# Altium integrated library Linear Technology Power Management System Supervisor, Monitor and Control.IntLib: 1611 symbols (part 78 of 100)
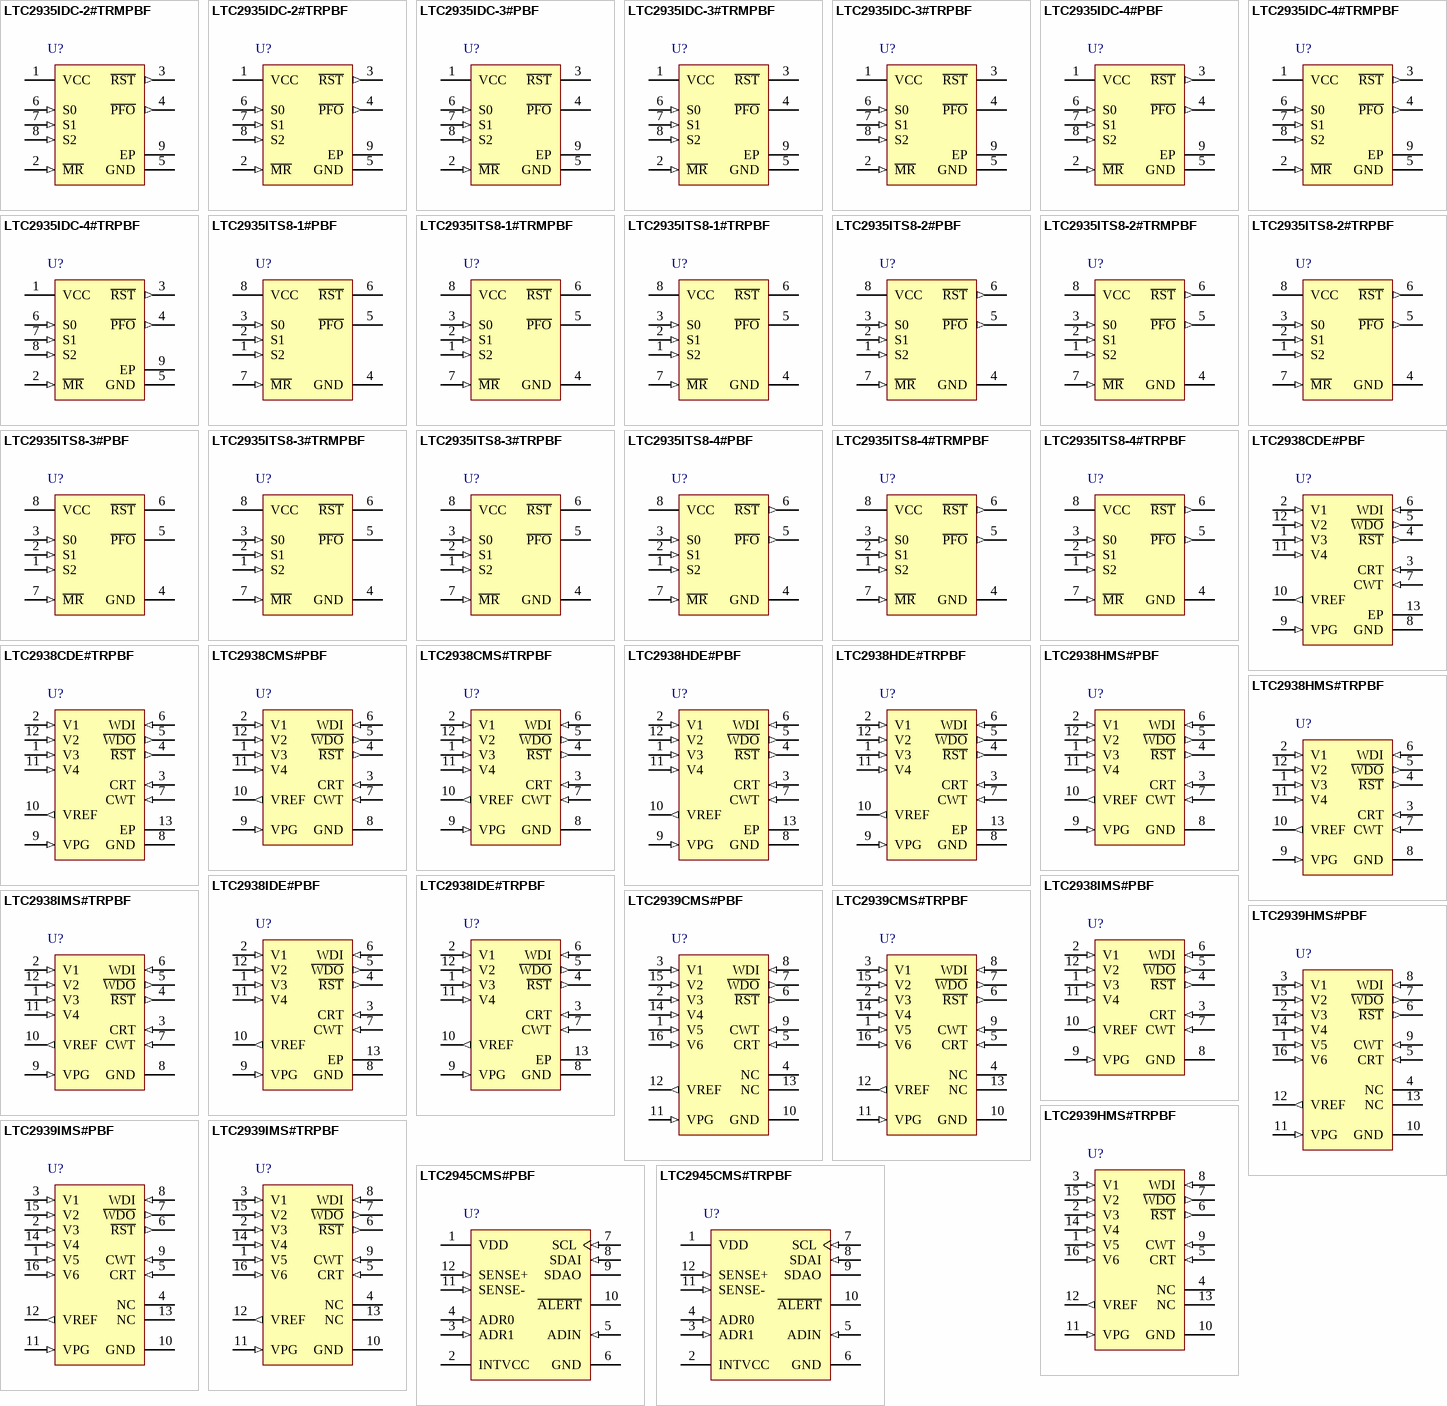
[diagram p122: symbols LTC2935IDC-2#TRMPBF to LTC2945CMS#TRPBF]

## LTC2938HDE#TRPBF
designator U?
Configurable 4-Supply Monitor with Watchdog Timer, 12-pin SON (DE-UE-12), -40 to 125 degC, Pb-Free, Tape and Reel; Manufacturer: Linear Technology; PartNumber: LTC2938HDE#TRPBF; Number of Supplies(#): 4; PackageVersion: Rev. D, 06/2010; PackageReference: DE-UE-12; PackageDescription: 12-Pin Plastic DFN, Body 4 x 3 mm, Pitch 0.5 mm; Supplier 1: Digi-Key; Supplier Part Number 1: LTC2938HDE#TRPBF-ND; Packing: Tape and Reel; RoHS: TRUE; Mounting Technology: Surface Mount; Code_JEDEC: MO-229; ComponentLink1Description: Manufacturer URL; ComponentLink1URL: http://www.linear.com/; ComponentLink2Description: Datasheet; ComponentLink2URL: http://cds.linear.com/docs/en/datasheet/293839f.pdf; ComponentLink3Description: Package Specification; ComponentLink3URL: http://cds.linear.com/docs/en/packaging/DFN_12_05-08-1695.pdf
footprint LT-DE-UE-12_V (SON, 12-Leads, Body 4x3mm, Pitch 0.5mm, Thermal Pad 3.3x1.7mm)
pins: 1 V3 (in) "Voltage Input 3. Select from 2.5V, 1.8V, 1.5V, 1.2V or ADJ. See the Applications Information section for details. Tie to V1 if unused.", 2 V1 (in) "Voltage Input 1. Select from 5V or 3.3V. See the Applications Information section for details. The greater of V1 or V2 is also VCC for the device. Bypass this input to ground with a 0.1uF (or greater) capacitor.", 3 CRT (in) "Reset Timeout Capacitor. Attach an external capacitor (CRT) to GND to set a reset timeout of 2ms/nF. A 47nF capacitor generates a 94ms reset delay time. Leaving CRT unconnected generates a minimum timeout period of (See Datasheet)", 4 ~{RST} (out) "Reset Output. Logic output with weak 6uA pull-up to V2. Pulls low when any voltage input is below the reset threshold and held low for the confi gured reset delay time after all voltage inputs are above threshold. When the (See Datasheet)", 5 ~{WDO} (out) "Watchdog Output. Logic output with weak 6uA pullup to V2. May be pulled greater than V2 using external pull-up. For V2 confi gured to monitor 2.5V or below, connect an external pull-up resistor to the interface logic supply (See Datasheet)", 6 WDI (in) "Watchdog Input: A three-state input that controls the operation of the watchdog timer. Leaving the WDI pin unconnected disables the watchdog timer while tying it low or high enables it. While R\S\T\ is high, a transition (See Datasheet)", 7 CWT (in) "Watchdog Timeout Capacitor. Attach a capacitor (CWT) between CWT and GND to set a watchdog timeout period of 20ms/nF. A 47nF capacitor generates a 940ms watchdog timeout period. Leaving CWT unconnected generates a minimum (See Datasheet)", 8 GND (power) "Device Ground.", 9 VPG (in) "Threshold Select Input. Connect to an external 1% resistive divider between VREF and GND to select one of sixteen combinations of voltage thresholds (see Table 1). Do not add capacitance to the VPG input.", 10 VREF (out) "Buffered Reference Voltage Output. A 1.210V nominal reference used for the mode selection voltage (VPG) and for the offset of negative adjustable applications. The buffered reference can source and sink up to 1mA. The (See Datasheet)", 11 V4 (in) "Voltage Input 4. Select from 1.8V, 1.5V, 1.2V, ADJ or -ADJ. See the Applications Information section for details. Tie to V1 if unused and confi gured for positive voltage.", 12 V2 (in) "Voltage Input 2. Select from 3.3V, 2.5V, 1.8V, 1.5V or 1.2V. See the Applications Information section for details. The greater of V1, V2 is also VCC for the device. Bypass this input to ground with a 0.1uF (or greater) (See Datasheet)", 13 EP (power) "The Exposed Pad may be left open or connected to device ground."

## LTC2938HMS#PBF
designator U?
Configurable 4-Supply Monitor with Watchdog Timer, 12-pin SOP (MS-12), -40 to 125 degC, Pb-Free; Manufacturer: Linear Technology; PartNumber: LTC2938HMS#PBF; Number of Supplies(#): 4; PackageVersion: Rev. A, 05/2013; PackageReference: MS-12; PackageDescription: 12-Pin Plastic MSOP, Body 4.039 x 3 mm, Pitch 0.65 mm; Supplier 1: Digi-Key; Supplier Part Number 1: LTC2938HMS#PBF-ND; RoHS: TRUE; Mounting Technology: Surface Mount; ComponentLink1Description: Manufacturer URL; ComponentLink1URL: http://www.linear.com/; ComponentLink2Description: Datasheet; ComponentLink2URL: http://cds.linear.com/docs/en/datasheet/293839f.pdf; ComponentLink3Description: Package Specification; ComponentLink3URL: http://cds.linear.com/docs/en/packaging/05081668_A_MS12.pdf
footprint LT-MS-12_N (SOP, 12-Leads, Body 4.1x3.1mm, Pitch 0.65mm, IPC Medium Density)
footprint LT-MS-12_L (SOP, 12-Leads, Body 4.1x3.1mm, Pitch 0.65mm, IPC High Density)
footprint LT-MS-12_M (SOP, 12-Leads, Body 4.1x3.1mm, Pitch 0.65mm, IPC Low Density)
pins: 1 V3 (in) "Voltage Input 3. Select from 2.5V, 1.8V, 1.5V, 1.2V or ADJ. See the Applications Information section for details. Tie to V1 if unused.", 2 V1 (in) "Voltage Input 1. Select from 5V or 3.3V. See the Applications Information section for details. The greater of V1 or V2 is also VCC for the device. Bypass this input to ground with a 0.1uF (or greater) capacitor.", 3 CRT (in) "Reset Timeout Capacitor. Attach an external capacitor (CRT) to GND to set a reset timeout of 2ms/nF. A 47nF capacitor generates a 94ms reset delay time. Leaving CRT unconnected generates a minimum timeout period of (See Datasheet)", 4 ~{RST} (out) "Reset Output. Logic output with weak 6uA pull-up to V2. Pulls low when any voltage input is below the reset threshold and held low for the confi gured reset delay time after all voltage inputs are above threshold. When the (See Datasheet)", 5 ~{WDO} (out) "Watchdog Output. Logic output with weak 6uA pullup to V2. May be pulled greater than V2 using external pull-up. For V2 confi gured to monitor 2.5V or below, connect an external pull-up resistor to the interface logic supply (See Datasheet)", 6 WDI (in) "Watchdog Input: A three-state input that controls the operation of the watchdog timer. Leaving the WDI pin unconnected disables the watchdog timer while tying it low or high enables it. While R\S\T\ is high, a transition (See Datasheet)", 7 CWT (in) "Watchdog Timeout Capacitor. Attach a capacitor (CWT) between CWT and GND to set a watchdog timeout period of 20ms/nF. A 47nF capacitor generates a 940ms watchdog timeout period. Leaving CWT unconnected generates a minimum (See Datasheet)", 8 GND (power) "Device Ground.", 9 VPG (in) "Threshold Select Input. Connect to an external 1% resistive divider between VREF and GND to select one of sixteen combinations of voltage thresholds (see Table 1). Do not add capacitance to the VPG input.", 10 VREF (out) "Buffered Reference Voltage Output. A 1.210V nominal reference used for the mode selection voltage (VPG) and for the offset of negative adjustable applications. The buffered reference can source and sink up to 1mA. The (See Datasheet)", 11 V4 (in) "Voltage Input 4. Select from 1.8V, 1.5V, 1.2V, ADJ or -ADJ. See the Applications Information section for details. Tie to V1 if unused and confi gured for positive voltage.", 12 V2 (in) "Voltage Input 2. Select from 3.3V, 2.5V, 1.8V, 1.5V or 1.2V. See the Applications Information section for details. The greater of V1, V2 is also VCC for the device. Bypass this input to ground with a 0.1uF (or greater) (See Datasheet)"

## LTC2938HMS#TRPBF
designator U?
Configurable 4-Supply Monitor with Watchdog Timer, 12-pin SOP (MS-12), -40 to 125 degC, Pb-Free, Tape and Reel; Manufacturer: Linear Technology; PartNumber: LTC2938HMS#TRPBF; Number of Supplies(#): 4; PackageVersion: Rev. A, 05/2013; PackageReference: MS-12; PackageDescription: 12-Pin Plastic MSOP, Body 4.039 x 3 mm, Pitch 0.65 mm; Supplier 1: Digi-Key; Supplier Part Number 1: LTC2938HMS#TRPBF-ND; Packing: Tape and Reel; RoHS: TRUE; Mounting Technology: Surface Mount; ComponentLink1Description: Manufacturer URL; ComponentLink1URL: http://www.linear.com/; ComponentLink2Description: Datasheet; ComponentLink2URL: http://cds.linear.com/docs/en/datasheet/293839f.pdf; ComponentLink3Description: Package Specification; ComponentLink3URL: http://cds.linear.com/docs/en/packaging/05081668_A_MS12.pdf
footprint LT-MS-12_N (SOP, 12-Leads, Body 4.1x3.1mm, Pitch 0.65mm, IPC Medium Density)
footprint LT-MS-12_L (SOP, 12-Leads, Body 4.1x3.1mm, Pitch 0.65mm, IPC High Density)
footprint LT-MS-12_M (SOP, 12-Leads, Body 4.1x3.1mm, Pitch 0.65mm, IPC Low Density)
pins: 1 V3 (in) "Voltage Input 3. Select from 2.5V, 1.8V, 1.5V, 1.2V or ADJ. See the Applications Information section for details. Tie to V1 if unused.", 2 V1 (in) "Voltage Input 1. Select from 5V or 3.3V. See the Applications Information section for details. The greater of V1 or V2 is also VCC for the device. Bypass this input to ground with a 0.1uF (or greater) capacitor.", 3 CRT (in) "Reset Timeout Capacitor. Attach an external capacitor (CRT) to GND to set a reset timeout of 2ms/nF. A 47nF capacitor generates a 94ms reset delay time. Leaving CRT unconnected generates a minimum timeout period of (See Datasheet)", 4 ~{RST} (out) "Reset Output. Logic output with weak 6uA pull-up to V2. Pulls low when any voltage input is below the reset threshold and held low for the confi gured reset delay time after all voltage inputs are above threshold. When the (See Datasheet)", 5 ~{WDO} (out) "Watchdog Output. Logic output with weak 6uA pullup to V2. May be pulled greater than V2 using external pull-up. For V2 confi gured to monitor 2.5V or below, connect an external pull-up resistor to the interface logic supply (See Datasheet)", 6 WDI (in) "Watchdog Input: A three-state input that controls the operation of the watchdog timer. Leaving the WDI pin unconnected disables the watchdog timer while tying it low or high enables it. While R\S\T\ is high, a transition (See Datasheet)", 7 CWT (in) "Watchdog Timeout Capacitor. Attach a capacitor (CWT) between CWT and GND to set a watchdog timeout period of 20ms/nF. A 47nF capacitor generates a 940ms watchdog timeout period. Leaving CWT unconnected generates a minimum (See Datasheet)", 8 GND (power) "Device Ground.", 9 VPG (in) "Threshold Select Input. Connect to an external 1% resistive divider between VREF and GND to select one of sixteen combinations of voltage thresholds (see Table 1). Do not add capacitance to the VPG input.", 10 VREF (out) "Buffered Reference Voltage Output. A 1.210V nominal reference used for the mode selection voltage (VPG) and for the offset of negative adjustable applications. The buffered reference can source and sink up to 1mA. The (See Datasheet)", 11 V4 (in) "Voltage Input 4. Select from 1.8V, 1.5V, 1.2V, ADJ or -ADJ. See the Applications Information section for details. Tie to V1 if unused and confi gured for positive voltage.", 12 V2 (in) "Voltage Input 2. Select from 3.3V, 2.5V, 1.8V, 1.5V or 1.2V. See the Applications Information section for details. The greater of V1, V2 is also VCC for the device. Bypass this input to ground with a 0.1uF (or greater) (See Datasheet)"

## LTC2938IDE#PBF
designator U?
Configurable 4-Supply Monitor with Watchdog Timer, 12-pin SON (DE-UE-12), -40 to 85 degC, Pb-Free; Manufacturer: Linear Technology; PartNumber: LTC2938IDE#PBF; Number of Supplies(#): 4; PackageVersion: Rev. D, 06/2010; PackageReference: DE-UE-12; PackageDescription: 12-Pin Plastic DFN, Body 4 x 3 mm, Pitch 0.5 mm; Supplier 1: Digi-Key; Supplier Part Number 1: LTC2938IDE#PBF-ND; RoHS: TRUE; Mounting Technology: Surface Mount; Code_JEDEC: MO-229; ComponentLink1Description: Manufacturer URL; ComponentLink1URL: http://www.linear.com/; ComponentLink2Description: Datasheet; ComponentLink2URL: http://cds.linear.com/docs/en/datasheet/293839f.pdf; ComponentLink3Description: Package Specification; ComponentLink3URL: http://cds.linear.com/docs/en/packaging/DFN_12_05-08-1695.pdf
footprint LT-DE-UE-12_V (SON, 12-Leads, Body 4x3mm, Pitch 0.5mm, Thermal Pad 3.3x1.7mm)
pins: 1 V3 (in) "Voltage Input 3. Select from 2.5V, 1.8V, 1.5V, 1.2V or ADJ. See the Applications Information section for details. Tie to V1 if unused.", 2 V1 (in) "Voltage Input 1. Select from 5V or 3.3V. See the Applications Information section for details. The greater of V1 or V2 is also VCC for the device. Bypass this input to ground with a 0.1uF (or greater) capacitor.", 3 CRT (in) "Reset Timeout Capacitor. Attach an external capacitor (CRT) to GND to set a reset timeout of 2ms/nF. A 47nF capacitor generates a 94ms reset delay time. Leaving CRT unconnected generates a minimum timeout period of (See Datasheet)", 4 ~{RST} (out) "Reset Output. Logic output with weak 6uA pull-up to V2. Pulls low when any voltage input is below the reset threshold and held low for the confi gured reset delay time after all voltage inputs are above threshold. When the (See Datasheet)", 5 ~{WDO} (out) "Watchdog Output. Logic output with weak 6uA pullup to V2. May be pulled greater than V2 using external pull-up. For V2 confi gured to monitor 2.5V or below, connect an external pull-up resistor to the interface logic supply (See Datasheet)", 6 WDI (in) "Watchdog Input: A three-state input that controls the operation of the watchdog timer. Leaving the WDI pin unconnected disables the watchdog timer while tying it low or high enables it. While R\S\T\ is high, a transition (See Datasheet)", 7 CWT (in) "Watchdog Timeout Capacitor. Attach a capacitor (CWT) between CWT and GND to set a watchdog timeout period of 20ms/nF. A 47nF capacitor generates a 940ms watchdog timeout period. Leaving CWT unconnected generates a minimum (See Datasheet)", 8 GND (power) "Device Ground.", 9 VPG (in) "Threshold Select Input. Connect to an external 1% resistive divider between VREF and GND to select one of sixteen combinations of voltage thresholds (see Table 1). Do not add capacitance to the VPG input.", 10 VREF (out) "Buffered Reference Voltage Output. A 1.210V nominal reference used for the mode selection voltage (VPG) and for the offset of negative adjustable applications. The buffered reference can source and sink up to 1mA. The (See Datasheet)", 11 V4 (in) "Voltage Input 4. Select from 1.8V, 1.5V, 1.2V, ADJ or -ADJ. See the Applications Information section for details. Tie to V1 if unused and confi gured for positive voltage.", 12 V2 (in) "Voltage Input 2. Select from 3.3V, 2.5V, 1.8V, 1.5V or 1.2V. See the Applications Information section for details. The greater of V1, V2 is also VCC for the device. Bypass this input to ground with a 0.1uF (or greater) (See Datasheet)", 13 EP (power) "The Exposed Pad may be left open or connected to device ground."

## LTC2938IDE#TRPBF
designator U?
Configurable 4-Supply Monitor with Watchdog Timer, 12-pin SON (DE-UE-12), -40 to 85 degC, Pb-Free, Tape and Reel; Manufacturer: Linear Technology; PartNumber: LTC2938IDE#TRPBF; Number of Supplies(#): 4; PackageVersion: Rev. D, 06/2010; PackageReference: DE-UE-12; PackageDescription: 12-Pin Plastic DFN, Body 4 x 3 mm, Pitch 0.5 mm; Supplier 1: Digi-Key; Supplier Part Number 1: LTC2938IDE#TRPBF-ND; Packing: Tape and Reel; RoHS: TRUE; Mounting Technology: Surface Mount; Code_JEDEC: MO-229; ComponentLink1Description: Manufacturer URL; ComponentLink1URL: http://www.linear.com/; ComponentLink2Description: Datasheet; ComponentLink2URL: http://cds.linear.com/docs/en/datasheet/293839f.pdf; ComponentLink3Description: Package Specification; ComponentLink3URL: http://cds.linear.com/docs/en/packaging/DFN_12_05-08-1695.pdf
footprint LT-DE-UE-12_V (SON, 12-Leads, Body 4x3mm, Pitch 0.5mm, Thermal Pad 3.3x1.7mm)
pins: 1 V3 (in) "Voltage Input 3. Select from 2.5V, 1.8V, 1.5V, 1.2V or ADJ. See the Applications Information section for details. Tie to V1 if unused.", 2 V1 (in) "Voltage Input 1. Select from 5V or 3.3V. See the Applications Information section for details. The greater of V1 or V2 is also VCC for the device. Bypass this input to ground with a 0.1uF (or greater) capacitor.", 3 CRT (in) "Reset Timeout Capacitor. Attach an external capacitor (CRT) to GND to set a reset timeout of 2ms/nF. A 47nF capacitor generates a 94ms reset delay time. Leaving CRT unconnected generates a minimum timeout period of (See Datasheet)", 4 ~{RST} (out) "Reset Output. Logic output with weak 6uA pull-up to V2. Pulls low when any voltage input is below the reset threshold and held low for the confi gured reset delay time after all voltage inputs are above threshold. When the (See Datasheet)", 5 ~{WDO} (out) "Watchdog Output. Logic output with weak 6uA pullup to V2. May be pulled greater than V2 using external pull-up. For V2 confi gured to monitor 2.5V or below, connect an external pull-up resistor to the interface logic supply (See Datasheet)", 6 WDI (in) "Watchdog Input: A three-state input that controls the operation of the watchdog timer. Leaving the WDI pin unconnected disables the watchdog timer while tying it low or high enables it. While R\S\T\ is high, a transition (See Datasheet)", 7 CWT (in) "Watchdog Timeout Capacitor. Attach a capacitor (CWT) between CWT and GND to set a watchdog timeout period of 20ms/nF. A 47nF capacitor generates a 940ms watchdog timeout period. Leaving CWT unconnected generates a minimum (See Datasheet)", 8 GND (power) "Device Ground.", 9 VPG (in) "Threshold Select Input. Connect to an external 1% resistive divider between VREF and GND to select one of sixteen combinations of voltage thresholds (see Table 1). Do not add capacitance to the VPG input.", 10 VREF (out) "Buffered Reference Voltage Output. A 1.210V nominal reference used for the mode selection voltage (VPG) and for the offset of negative adjustable applications. The buffered reference can source and sink up to 1mA. The (See Datasheet)", 11 V4 (in) "Voltage Input 4. Select from 1.8V, 1.5V, 1.2V, ADJ or -ADJ. See the Applications Information section for details. Tie to V1 if unused and confi gured for positive voltage.", 12 V2 (in) "Voltage Input 2. Select from 3.3V, 2.5V, 1.8V, 1.5V or 1.2V. See the Applications Information section for details. The greater of V1, V2 is also VCC for the device. Bypass this input to ground with a 0.1uF (or greater) (See Datasheet)", 13 EP (power) "The Exposed Pad may be left open or connected to device ground."

## LTC2938IMS#PBF
designator U?
Configurable 4-Supply Monitor with Watchdog Timer, 12-pin SOP (MS-12), -40 to 85 degC, Pb-Free; Manufacturer: Linear Technology; PartNumber: LTC2938IMS#PBF; Number of Supplies(#): 4; PackageVersion: Rev. A, 05/2013; PackageReference: MS-12; PackageDescription: 12-Pin Plastic MSOP, Body 4.039 x 3 mm, Pitch 0.65 mm; Supplier 1: Digi-Key; Supplier Part Number 1: LTC2938IMS#PBF-ND; RoHS: TRUE; Mounting Technology: Surface Mount; ComponentLink1Description: Manufacturer URL; ComponentLink1URL: http://www.linear.com/; ComponentLink2Description: Datasheet; ComponentLink2URL: http://cds.linear.com/docs/en/datasheet/293839f.pdf; ComponentLink3Description: Package Specification; ComponentLink3URL: http://cds.linear.com/docs/en/packaging/05081668_A_MS12.pdf
footprint LT-MS-12_N (SOP, 12-Leads, Body 4.1x3.1mm, Pitch 0.65mm, IPC Medium Density)
footprint LT-MS-12_L (SOP, 12-Leads, Body 4.1x3.1mm, Pitch 0.65mm, IPC High Density)
footprint LT-MS-12_M (SOP, 12-Leads, Body 4.1x3.1mm, Pitch 0.65mm, IPC Low Density)
pins: 1 V3 (in) "Voltage Input 3. Select from 2.5V, 1.8V, 1.5V, 1.2V or ADJ. See the Applications Information section for details. Tie to V1 if unused.", 2 V1 (in) "Voltage Input 1. Select from 5V or 3.3V. See the Applications Information section for details. The greater of V1 or V2 is also VCC for the device. Bypass this input to ground with a 0.1uF (or greater) capacitor.", 3 CRT (in) "Reset Timeout Capacitor. Attach an external capacitor (CRT) to GND to set a reset timeout of 2ms/nF. A 47nF capacitor generates a 94ms reset delay time. Leaving CRT unconnected generates a minimum timeout period of (See Datasheet)", 4 ~{RST} (out) "Reset Output. Logic output with weak 6uA pull-up to V2. Pulls low when any voltage input is below the reset threshold and held low for the confi gured reset delay time after all voltage inputs are above threshold. When the (See Datasheet)", 5 ~{WDO} (out) "Watchdog Output. Logic output with weak 6uA pullup to V2. May be pulled greater than V2 using external pull-up. For V2 confi gured to monitor 2.5V or below, connect an external pull-up resistor to the interface logic supply (See Datasheet)", 6 WDI (in) "Watchdog Input: A three-state input that controls the operation of the watchdog timer. Leaving the WDI pin unconnected disables the watchdog timer while tying it low or high enables it. While R\S\T\ is high, a transition (See Datasheet)", 7 CWT (in) "Watchdog Timeout Capacitor. Attach a capacitor (CWT) between CWT and GND to set a watchdog timeout period of 20ms/nF. A 47nF capacitor generates a 940ms watchdog timeout period. Leaving CWT unconnected generates a minimum (See Datasheet)", 8 GND (power) "Device Ground.", 9 VPG (in) "Threshold Select Input. Connect to an external 1% resistive divider between VREF and GND to select one of sixteen combinations of voltage thresholds (see Table 1). Do not add capacitance to the VPG input.", 10 VREF (out) "Buffered Reference Voltage Output. A 1.210V nominal reference used for the mode selection voltage (VPG) and for the offset of negative adjustable applications. The buffered reference can source and sink up to 1mA. The (See Datasheet)", 11 V4 (in) "Voltage Input 4. Select from 1.8V, 1.5V, 1.2V, ADJ or -ADJ. See the Applications Information section for details. Tie to V1 if unused and confi gured for positive voltage.", 12 V2 (in) "Voltage Input 2. Select from 3.3V, 2.5V, 1.8V, 1.5V or 1.2V. See the Applications Information section for details. The greater of V1, V2 is also VCC for the device. Bypass this input to ground with a 0.1uF (or greater) (See Datasheet)"

## LTC2938IMS#TRPBF
designator U?
Configurable 4-Supply Monitor with Watchdog Timer, 12-pin SOP (MS-12), -40 to 85 degC, Pb-Free, Tape and Reel; Manufacturer: Linear Technology; PartNumber: LTC2938IMS#TRPBF; Number of Supplies(#): 4; PackageVersion: Rev. A, 05/2013; PackageReference: MS-12; PackageDescription: 12-Pin Plastic MSOP, Body 4.039 x 3 mm, Pitch 0.65 mm; Supplier 1: Digi-Key; Supplier Part Number 1: LTC2938IMS#TRPBF-ND; Packing: Tape and Reel; RoHS: TRUE; Mounting Technology: Surface Mount; ComponentLink1Description: Manufacturer URL; ComponentLink1URL: http://www.linear.com/; ComponentLink2Description: Datasheet; ComponentLink2URL: http://cds.linear.com/docs/en/datasheet/293839f.pdf; ComponentLink3Description: Package Specification; ComponentLink3URL: http://cds.linear.com/docs/en/packaging/05081668_A_MS12.pdf
footprint LT-MS-12_N (SOP, 12-Leads, Body 4.1x3.1mm, Pitch 0.65mm, IPC Medium Density)
footprint LT-MS-12_L (SOP, 12-Leads, Body 4.1x3.1mm, Pitch 0.65mm, IPC High Density)
footprint LT-MS-12_M (SOP, 12-Leads, Body 4.1x3.1mm, Pitch 0.65mm, IPC Low Density)
pins: 1 V3 (in) "Voltage Input 3. Select from 2.5V, 1.8V, 1.5V, 1.2V or ADJ. See the Applications Information section for details. Tie to V1 if unused.", 2 V1 (in) "Voltage Input 1. Select from 5V or 3.3V. See the Applications Information section for details. The greater of V1 or V2 is also VCC for the device. Bypass this input to ground with a 0.1uF (or greater) capacitor.", 3 CRT (in) "Reset Timeout Capacitor. Attach an external capacitor (CRT) to GND to set a reset timeout of 2ms/nF. A 47nF capacitor generates a 94ms reset delay time. Leaving CRT unconnected generates a minimum timeout period of (See Datasheet)", 4 ~{RST} (out) "Reset Output. Logic output with weak 6uA pull-up to V2. Pulls low when any voltage input is below the reset threshold and held low for the confi gured reset delay time after all voltage inputs are above threshold. When the (See Datasheet)", 5 ~{WDO} (out) "Watchdog Output. Logic output with weak 6uA pullup to V2. May be pulled greater than V2 using external pull-up. For V2 confi gured to monitor 2.5V or below, connect an external pull-up resistor to the interface logic supply (See Datasheet)", 6 WDI (in) "Watchdog Input: A three-state input that controls the operation of the watchdog timer. Leaving the WDI pin unconnected disables the watchdog timer while tying it low or high enables it. While R\S\T\ is high, a transition (See Datasheet)", 7 CWT (in) "Watchdog Timeout Capacitor. Attach a capacitor (CWT) between CWT and GND to set a watchdog timeout period of 20ms/nF. A 47nF capacitor generates a 940ms watchdog timeout period. Leaving CWT unconnected generates a minimum (See Datasheet)", 8 GND (power) "Device Ground.", 9 VPG (in) "Threshold Select Input. Connect to an external 1% resistive divider between VREF and GND to select one of sixteen combinations of voltage thresholds (see Table 1). Do not add capacitance to the VPG input.", 10 VREF (out) "Buffered Reference Voltage Output. A 1.210V nominal reference used for the mode selection voltage (VPG) and for the offset of negative adjustable applications. The buffered reference can source and sink up to 1mA. The (See Datasheet)", 11 V4 (in) "Voltage Input 4. Select from 1.8V, 1.5V, 1.2V, ADJ or -ADJ. See the Applications Information section for details. Tie to V1 if unused and confi gured for positive voltage.", 12 V2 (in) "Voltage Input 2. Select from 3.3V, 2.5V, 1.8V, 1.5V or 1.2V. See the Applications Information section for details. The greater of V1, V2 is also VCC for the device. Bypass this input to ground with a 0.1uF (or greater) (See Datasheet)"

## LTC2939CMS#PBF
designator U?
Configurable 6-Supply Monitor with Watchdog Timer, 16-pin SOP (MS-16), 0 to 70 degC, Pb-Free; Manufacturer: Linear Technology; PartNumber: LTC2939CMS#PBF; Number of Supplies(#): 6; PackageVersion: Rev. Ø, 06/2010; PackageReference: MS16; PackageDescription: 16-Pin Plastic MSOP, Body 4.04 x 3.00 mm, Pitch 0.50 mm; Supplier 1: Digi-Key; Supplier Part Number 1: LTC2939CMS#PBF-ND; Supplier 2: Newark; Supplier Part Number 2: 28R7635; RoHS: TRUE; Mounting Technology: Surface Mount; ComponentLink1Description: Manufacturer URL; ComponentLink1URL: http://www.linear.com/; ComponentLink2Description: Datasheet; ComponentLink2URL: http://cds.linear.com/docs/en/datasheet/293839f.pdf; ComponentLink3Description: Package Specification; ComponentLink3URL: http://cds.linear.com/docs/en/packaging/05081669_A_MS16.pdf
footprint LT-MS-16_N (SOP, 16-Leads, Body 4.1x3.1mm, Pitch 0.5mm, IPC Medium Density)
footprint LT-MS-16_L (SOP, 16-Leads, Body 4.1x3.1mm, Pitch 0.5mm, IPC High Density)
footprint LT-MS-16_M (SOP, 16-Leads, Body 4.1x3.1mm, Pitch 0.5mm, IPC Low Density)
pins: 1 V5 (in) "Adjustable Voltage Input 5 for LTC2939. High impedance comparator input with 0.5V typical threshold. Tie to V1 if unused", 2 V3 (in) "Voltage Input 3. Select from 2.5V, 1.8V, 1.5V, 1.2V or ADJ. See the Applications Information section for details. Tie to V1 if unused.", 3 V1 (in) "Voltage Input 1. Select from 5V or 3.3V. See the Applications Information section for details. The greater of V1 or V2 is also VCC for the device. Bypass this input to ground with a 0.1uF (or greater) capacitor.", 4 NC "No Internal Connection.", 5 CRT (in) "Reset Timeout Capacitor. Attach an external capacitor (CRT) to GND to set a reset timeout of 2ms/nF. A 47nF capacitor generates a 94ms reset delay time. Leaving CRT unconnected generates a minimum timeout period of (See Datasheet)", 6 ~{RST} (out) "Reset Output. Logic output with weak 6uA pull-up to V2. Pulls low when any voltage input is below the reset threshold and held low for the configured reset delay time after all voltage inputs are above threshold. When the (See Datasheet)", 7 ~{WDO} (out) "Watchdog Output. Logic output with weak 6uA pullup to V2. May be pulled greater than V2 using external pull-up. For V2 confi gured to monitor 2.5V or below, connect an external pull-up resistor to the interface logic supply (See Datasheet)", 8 WDI (in) "Watchdog Input: A three-state input that controls the operation of the watchdog timer. Leaving the WDI pin unconnected disables the watchdog timer while tying it low or high enables it. While R\S\T\ is high, a transition (See Datasheet)", 9 CWT (in) "Watchdog Timeout Capacitor. Attach a capacitor (CWT) between CWT and GND to set a watchdog timeout period of 20ms/nF. A 47nF capacitor generates a 940ms watchdog timeout period. Leaving CWT unconnected generates a minimum (See Datasheet)", 10 GND (power) "Device Ground.", 11 VPG (in) "Threshold Select Input. Connect to an external 1% resistive divider between VREF and GND to select one of sixteen combinations of voltage thresholds (see Table 1). Do not add capacitance to the VPG input.", 12 VREF (out) "Buffered Reference Voltage Output. A 1.210V nominal reference used for the mode selection voltage (VPG) and for the offset of negative adjustable applications. The buffered reference can source and sink up to 1mA. The (See Datasheet)", 13 NC "No Internal Connection.", 14 V4 (in) "Voltage Input 4. Select from 1.8V, 1.5V, 1.2V, ADJ or -ADJ. See the Applications Information section for details. Tie to V1 if unused and confi gured for positive voltage.", 15 V2 (in) "Voltage Input 2. Select from 3.3V, 2.5V, 1.8V, 1.5V or 1.2V. See the Applications Information section for details. The greater of V1, V2 is also VCC for the device. Bypass this input to ground with a 0.1uF (or greater) (See Datasheet)", 16 V6 (in) "Adjustable Voltage Input 6 for LTC2939. High impedance comparator input with 0.5V typical threshold. Tie to V1 if unused."

## LTC2939CMS#TRPBF
designator U?
Configurable 6-Supply Monitor with Watchdog Timer, 16-pin SOP (MS-16), 0 to 70 degC, Pb-Free, Tape and Reel; Manufacturer: Linear Technology; PartNumber: LTC2939CMS#TRPBF; Number of Supplies(#): 6; PackageVersion: Rev. Ø, 06/2010; PackageReference: MS16; PackageDescription: 16-Pin Plastic MSOP, Body 4.04 x 3.00 mm, Pitch 0.50 mm; Supplier 1: Digi-Key; Supplier Part Number 1: LTC2939CMS#TRPBF-ND; Packing: Tape and Reel; RoHS: TRUE; Mounting Technology: Surface Mount; ComponentLink1Description: Manufacturer URL; ComponentLink1URL: http://www.linear.com/; ComponentLink2Description: Datasheet; ComponentLink2URL: http://cds.linear.com/docs/en/datasheet/293839f.pdf; ComponentLink3Description: Package Specification; ComponentLink3URL: http://cds.linear.com/docs/en/packaging/05081669_A_MS16.pdf
footprint LT-MS-16_N (SOP, 16-Leads, Body 4.1x3.1mm, Pitch 0.5mm, IPC Medium Density)
footprint LT-MS-16_L (SOP, 16-Leads, Body 4.1x3.1mm, Pitch 0.5mm, IPC High Density)
footprint LT-MS-16_M (SOP, 16-Leads, Body 4.1x3.1mm, Pitch 0.5mm, IPC Low Density)
pins: 1 V5 (in) "Adjustable Voltage Input 5 for LTC2939. High impedance comparator input with 0.5V typical threshold. Tie to V1 if unused", 2 V3 (in) "Voltage Input 3. Select from 2.5V, 1.8V, 1.5V, 1.2V or ADJ. See the Applications Information section for details. Tie to V1 if unused.", 3 V1 (in) "Voltage Input 1. Select from 5V or 3.3V. See the Applications Information section for details. The greater of V1 or V2 is also VCC for the device. Bypass this input to ground with a 0.1uF (or greater) capacitor.", 4 NC "No Internal Connection.", 5 CRT (in) "Reset Timeout Capacitor. Attach an external capacitor (CRT) to GND to set a reset timeout of 2ms/nF. A 47nF capacitor generates a 94ms reset delay time. Leaving CRT unconnected generates a minimum timeout period of (See Datasheet)", 6 ~{RST} (out) "Reset Output. Logic output with weak 6uA pull-up to V2. Pulls low when any voltage input is below the reset threshold and held low for the configured reset delay time after all voltage inputs are above threshold. When the (See Datasheet)", 7 ~{WDO} (out) "Watchdog Output. Logic output with weak 6uA pullup to V2. May be pulled greater than V2 using external pull-up. For V2 confi gured to monitor 2.5V or below, connect an external pull-up resistor to the interface logic supply (See Datasheet)", 8 WDI (in) "Watchdog Input: A three-state input that controls the operation of the watchdog timer. Leaving the WDI pin unconnected disables the watchdog timer while tying it low or high enables it. While R\S\T\ is high, a transition (See Datasheet)", 9 CWT (in) "Watchdog Timeout Capacitor. Attach a capacitor (CWT) between CWT and GND to set a watchdog timeout period of 20ms/nF. A 47nF capacitor generates a 940ms watchdog timeout period. Leaving CWT unconnected generates a minimum (See Datasheet)", 10 GND (power) "Device Ground.", 11 VPG (in) "Threshold Select Input. Connect to an external 1% resistive divider between VREF and GND to select one of sixteen combinations of voltage thresholds (see Table 1). Do not add capacitance to the VPG input.", 12 VREF (out) "Buffered Reference Voltage Output. A 1.210V nominal reference used for the mode selection voltage (VPG) and for the offset of negative adjustable applications. The buffered reference can source and sink up to 1mA. The (See Datasheet)", 13 NC "No Internal Connection.", 14 V4 (in) "Voltage Input 4. Select from 1.8V, 1.5V, 1.2V, ADJ or -ADJ. See the Applications Information section for details. Tie to V1 if unused and confi gured for positive voltage.", 15 V2 (in) "Voltage Input 2. Select from 3.3V, 2.5V, 1.8V, 1.5V or 1.2V. See the Applications Information section for details. The greater of V1, V2 is also VCC for the device. Bypass this input to ground with a 0.1uF (or greater) (See Datasheet)", 16 V6 (in) "Adjustable Voltage Input 6 for LTC2939. High impedance comparator input with 0.5V typical threshold. Tie to V1 if unused."

## LTC2939HMS#PBF
designator U?
Configurable 6-Supply Monitor with Watchdog Timer, 16-pin SOP (MS-16), -40 to 125 degC, Pb-Free; Manufacturer: Linear Technology; PartNumber: LTC2939HMS#PBF; Number of Supplies(#): 6; PackageVersion: Rev. Ø, 06/2010; PackageReference: MS16; PackageDescription: 16-Pin Plastic MSOP, Body 4.04 x 3.00 mm, Pitch 0.50 mm; Supplier 1: Digi-Key; Supplier Part Number 1: LTC2939HMS#PBF-ND; RoHS: TRUE; Mounting Technology: Surface Mount; ComponentLink1Description: Manufacturer URL; ComponentLink1URL: http://www.linear.com/; ComponentLink2Description: Datasheet; ComponentLink2URL: http://cds.linear.com/docs/en/datasheet/293839f.pdf; ComponentLink3Description: Package Specification; ComponentLink3URL: http://cds.linear.com/docs/en/packaging/05081669_A_MS16.pdf
footprint LT-MS-16_N (SOP, 16-Leads, Body 4.1x3.1mm, Pitch 0.5mm, IPC Medium Density)
footprint LT-MS-16_L (SOP, 16-Leads, Body 4.1x3.1mm, Pitch 0.5mm, IPC High Density)
footprint LT-MS-16_M (SOP, 16-Leads, Body 4.1x3.1mm, Pitch 0.5mm, IPC Low Density)
pins: 1 V5 (in) "Adjustable Voltage Input 5 for LTC2939. High impedance comparator input with 0.5V typical threshold. Tie to V1 if unused", 2 V3 (in) "Voltage Input 3. Select from 2.5V, 1.8V, 1.5V, 1.2V or ADJ. See the Applications Information section for details. Tie to V1 if unused.", 3 V1 (in) "Voltage Input 1. Select from 5V or 3.3V. See the Applications Information section for details. The greater of V1 or V2 is also VCC for the device. Bypass this input to ground with a 0.1uF (or greater) capacitor.", 4 NC "No Internal Connection.", 5 CRT (in) "Reset Timeout Capacitor. Attach an external capacitor (CRT) to GND to set a reset timeout of 2ms/nF. A 47nF capacitor generates a 94ms reset delay time. Leaving CRT unconnected generates a minimum timeout period of (See Datasheet)", 6 ~{RST} (out) "Reset Output. Logic output with weak 6uA pull-up to V2. Pulls low when any voltage input is below the reset threshold and held low for the configured reset delay time after all voltage inputs are above threshold. When the (See Datasheet)", 7 ~{WDO} (out) "Watchdog Output. Logic output with weak 6uA pullup to V2. May be pulled greater than V2 using external pull-up. For V2 confi gured to monitor 2.5V or below, connect an external pull-up resistor to the interface logic supply (See Datasheet)", 8 WDI (in) "Watchdog Input: A three-state input that controls the operation of the watchdog timer. Leaving the WDI pin unconnected disables the watchdog timer while tying it low or high enables it. While R\S\T\ is high, a transition (See Datasheet)", 9 CWT (in) "Watchdog Timeout Capacitor. Attach a capacitor (CWT) between CWT and GND to set a watchdog timeout period of 20ms/nF. A 47nF capacitor generates a 940ms watchdog timeout period. Leaving CWT unconnected generates a minimum (See Datasheet)", 10 GND (power) "Device Ground.", 11 VPG (in) "Threshold Select Input. Connect to an external 1% resistive divider between VREF and GND to select one of sixteen combinations of voltage thresholds (see Table 1). Do not add capacitance to the VPG input.", 12 VREF (out) "Buffered Reference Voltage Output. A 1.210V nominal reference used for the mode selection voltage (VPG) and for the offset of negative adjustable applications. The buffered reference can source and sink up to 1mA. The (See Datasheet)", 13 NC "No Internal Connection.", 14 V4 (in) "Voltage Input 4. Select from 1.8V, 1.5V, 1.2V, ADJ or -ADJ. See the Applications Information section for details. Tie to V1 if unused and confi gured for positive voltage.", 15 V2 (in) "Voltage Input 2. Select from 3.3V, 2.5V, 1.8V, 1.5V or 1.2V. See the Applications Information section for details. The greater of V1, V2 is also VCC for the device. Bypass this input to ground with a 0.1uF (or greater) (See Datasheet)", 16 V6 (in) "Adjustable Voltage Input 6 for LTC2939. High impedance comparator input with 0.5V typical threshold. Tie to V1 if unused."

## LTC2939HMS#TRPBF
designator U?
Configurable 6-Supply Monitor with Watchdog Timer, 16-pin SOP (MS-16), -40 to 125 degC, Pb-Free, Tape and Reel; Manufacturer: Linear Technology; PartNumber: LTC2939HMS#TRPBF; Number of Supplies(#): 6; PackageVersion: Rev. Ø, 06/2010; PackageReference: MS16; PackageDescription: 16-Pin Plastic MSOP, Body 4.04 x 3.00 mm, Pitch 0.50 mm; Supplier 1: Digi-Key; Supplier Part Number 1: LTC2939HMS#TRPBF-ND; Packing: Tape and Reel; RoHS: TRUE; Mounting Technology: Surface Mount; ComponentLink1Description: Manufacturer URL; ComponentLink1URL: http://www.linear.com/; ComponentLink2Description: Datasheet; ComponentLink2URL: http://cds.linear.com/docs/en/datasheet/293839f.pdf; ComponentLink3Description: Package Specification; ComponentLink3URL: http://cds.linear.com/docs/en/packaging/05081669_A_MS16.pdf
footprint LT-MS-16_N (SOP, 16-Leads, Body 4.1x3.1mm, Pitch 0.5mm, IPC Medium Density)
footprint LT-MS-16_L (SOP, 16-Leads, Body 4.1x3.1mm, Pitch 0.5mm, IPC High Density)
footprint LT-MS-16_M (SOP, 16-Leads, Body 4.1x3.1mm, Pitch 0.5mm, IPC Low Density)
pins: 1 V5 (in) "Adjustable Voltage Input 5 for LTC2939. High impedance comparator input with 0.5V typical threshold. Tie to V1 if unused", 2 V3 (in) "Voltage Input 3. Select from 2.5V, 1.8V, 1.5V, 1.2V or ADJ. See the Applications Information section for details. Tie to V1 if unused.", 3 V1 (in) "Voltage Input 1. Select from 5V or 3.3V. See the Applications Information section for details. The greater of V1 or V2 is also VCC for the device. Bypass this input to ground with a 0.1uF (or greater) capacitor.", 4 NC "No Internal Connection.", 5 CRT (in) "Reset Timeout Capacitor. Attach an external capacitor (CRT) to GND to set a reset timeout of 2ms/nF. A 47nF capacitor generates a 94ms reset delay time. Leaving CRT unconnected generates a minimum timeout period of (See Datasheet)", 6 ~{RST} (out) "Reset Output. Logic output with weak 6uA pull-up to V2. Pulls low when any voltage input is below the reset threshold and held low for the configured reset delay time after all voltage inputs are above threshold. When the (See Datasheet)", 7 ~{WDO} (out) "Watchdog Output. Logic output with weak 6uA pullup to V2. May be pulled greater than V2 using external pull-up. For V2 confi gured to monitor 2.5V or below, connect an external pull-up resistor to the interface logic supply (See Datasheet)", 8 WDI (in) "Watchdog Input: A three-state input that controls the operation of the watchdog timer. Leaving the WDI pin unconnected disables the watchdog timer while tying it low or high enables it. While R\S\T\ is high, a transition (See Datasheet)", 9 CWT (in) "Watchdog Timeout Capacitor. Attach a capacitor (CWT) between CWT and GND to set a watchdog timeout period of 20ms/nF. A 47nF capacitor generates a 940ms watchdog timeout period. Leaving CWT unconnected generates a minimum (See Datasheet)", 10 GND (power) "Device Ground.", 11 VPG (in) "Threshold Select Input. Connect to an external 1% resistive divider between VREF and GND to select one of sixteen combinations of voltage thresholds (see Table 1). Do not add capacitance to the VPG input.", 12 VREF (out) "Buffered Reference Voltage Output. A 1.210V nominal reference used for the mode selection voltage (VPG) and for the offset of negative adjustable applications. The buffered reference can source and sink up to 1mA. The (See Datasheet)", 13 NC "No Internal Connection.", 14 V4 (in) "Voltage Input 4. Select from 1.8V, 1.5V, 1.2V, ADJ or -ADJ. See the Applications Information section for details. Tie to V1 if unused and confi gured for positive voltage.", 15 V2 (in) "Voltage Input 2. Select from 3.3V, 2.5V, 1.8V, 1.5V or 1.2V. See the Applications Information section for details. The greater of V1, V2 is also VCC for the device. Bypass this input to ground with a 0.1uF (or greater) (See Datasheet)", 16 V6 (in) "Adjustable Voltage Input 6 for LTC2939. High impedance comparator input with 0.5V typical threshold. Tie to V1 if unused."

## LTC2939IMS#PBF
designator U?
Configurable 6-Supply Monitor with Watchdog Timer, 16-pin SOP (MS-16), -40 to 85 degC, Pb-Free; Manufacturer: Linear Technology; PartNumber: LTC2939IMS#PBF; Number of Supplies(#): 6; PackageVersion: Rev. Ø, 06/2010; PackageReference: MS16; PackageDescription: 16-Pin Plastic MSOP, Body 4.04 x 3.00 mm, Pitch 0.50 mm; Supplier 1: Digi-Key; Supplier Part Number 1: LTC2939IMS#PBF-ND; Supplier 2: Newark; Supplier Part Number 2: 28R7637; RoHS: TRUE; Mounting Technology: Surface Mount; ComponentLink1Description: Manufacturer URL; ComponentLink1URL: http://www.linear.com/; ComponentLink2Description: Datasheet; ComponentLink2URL: http://cds.linear.com/docs/en/datasheet/293839f.pdf; ComponentLink3Description: Package Specification; ComponentLink3URL: http://cds.linear.com/docs/en/packaging/05081669_A_MS16.pdf
footprint LT-MS-16_N (SOP, 16-Leads, Body 4.1x3.1mm, Pitch 0.5mm, IPC Medium Density)
footprint LT-MS-16_L (SOP, 16-Leads, Body 4.1x3.1mm, Pitch 0.5mm, IPC High Density)
footprint LT-MS-16_M (SOP, 16-Leads, Body 4.1x3.1mm, Pitch 0.5mm, IPC Low Density)
pins: 1 V5 (in) "Adjustable Voltage Input 5 for LTC2939. High impedance comparator input with 0.5V typical threshold. Tie to V1 if unused", 2 V3 (in) "Voltage Input 3. Select from 2.5V, 1.8V, 1.5V, 1.2V or ADJ. See the Applications Information section for details. Tie to V1 if unused.", 3 V1 (in) "Voltage Input 1. Select from 5V or 3.3V. See the Applications Information section for details. The greater of V1 or V2 is also VCC for the device. Bypass this input to ground with a 0.1uF (or greater) capacitor.", 4 NC "No Internal Connection.", 5 CRT (in) "Reset Timeout Capacitor. Attach an external capacitor (CRT) to GND to set a reset timeout of 2ms/nF. A 47nF capacitor generates a 94ms reset delay time. Leaving CRT unconnected generates a minimum timeout period of (See Datasheet)", 6 ~{RST} (out) "Reset Output. Logic output with weak 6uA pull-up to V2. Pulls low when any voltage input is below the reset threshold and held low for the configured reset delay time after all voltage inputs are above threshold. When the (See Datasheet)", 7 ~{WDO} (out) "Watchdog Output. Logic output with weak 6uA pullup to V2. May be pulled greater than V2 using external pull-up. For V2 confi gured to monitor 2.5V or below, connect an external pull-up resistor to the interface logic supply (See Datasheet)", 8 WDI (in) "Watchdog Input: A three-state input that controls the operation of the watchdog timer. Leaving the WDI pin unconnected disables the watchdog timer while tying it low or high enables it. While R\S\T\ is high, a transition (See Datasheet)", 9 CWT (in) "Watchdog Timeout Capacitor. Attach a capacitor (CWT) between CWT and GND to set a watchdog timeout period of 20ms/nF. A 47nF capacitor generates a 940ms watchdog timeout period. Leaving CWT unconnected generates a minimum (See Datasheet)", 10 GND (power) "Device Ground.", 11 VPG (in) "Threshold Select Input. Connect to an external 1% resistive divider between VREF and GND to select one of sixteen combinations of voltage thresholds (see Table 1). Do not add capacitance to the VPG input.", 12 VREF (out) "Buffered Reference Voltage Output. A 1.210V nominal reference used for the mode selection voltage (VPG) and for the offset of negative adjustable applications. The buffered reference can source and sink up to 1mA. The (See Datasheet)", 13 NC "No Internal Connection.", 14 V4 (in) "Voltage Input 4. Select from 1.8V, 1.5V, 1.2V, ADJ or -ADJ. See the Applications Information section for details. Tie to V1 if unused and confi gured for positive voltage.", 15 V2 (in) "Voltage Input 2. Select from 3.3V, 2.5V, 1.8V, 1.5V or 1.2V. See the Applications Information section for details. The greater of V1, V2 is also VCC for the device. Bypass this input to ground with a 0.1uF (or greater) (See Datasheet)", 16 V6 (in) "Adjustable Voltage Input 6 for LTC2939. High impedance comparator input with 0.5V typical threshold. Tie to V1 if unused."

## LTC2939IMS#TRPBF
designator U?
Configurable 6-Supply Monitor with Watchdog Timer, 16-pin SOP (MS-16), -40 to 85 degC, Pb-Free, Tape and Reel; Manufacturer: Linear Technology; PartNumber: LTC2939IMS#TRPBF; Number of Supplies(#): 6; PackageVersion: Rev. Ø, 06/2010; PackageReference: MS16; PackageDescription: 16-Pin Plastic MSOP, Body 4.04 x 3.00 mm, Pitch 0.50 mm; Supplier 1: Digi-Key; Supplier Part Number 1: LTC2939IMS#TRPBF-ND; Packing: Tape and Reel; RoHS: TRUE; Mounting Technology: Surface Mount; ComponentLink1Description: Manufacturer URL; ComponentLink1URL: http://www.linear.com/; ComponentLink2Description: Datasheet; ComponentLink2URL: http://cds.linear.com/docs/en/datasheet/293839f.pdf; ComponentLink3Description: Package Specification; ComponentLink3URL: http://cds.linear.com/docs/en/packaging/05081669_A_MS16.pdf
footprint LT-MS-16_N (SOP, 16-Leads, Body 4.1x3.1mm, Pitch 0.5mm, IPC Medium Density)
footprint LT-MS-16_L (SOP, 16-Leads, Body 4.1x3.1mm, Pitch 0.5mm, IPC High Density)
footprint LT-MS-16_M (SOP, 16-Leads, Body 4.1x3.1mm, Pitch 0.5mm, IPC Low Density)
pins: 1 V5 (in) "Adjustable Voltage Input 5 for LTC2939. High impedance comparator input with 0.5V typical threshold. Tie to V1 if unused", 2 V3 (in) "Voltage Input 3. Select from 2.5V, 1.8V, 1.5V, 1.2V or ADJ. See the Applications Information section for details. Tie to V1 if unused.", 3 V1 (in) "Voltage Input 1. Select from 5V or 3.3V. See the Applications Information section for details. The greater of V1 or V2 is also VCC for the device. Bypass this input to ground with a 0.1uF (or greater) capacitor.", 4 NC "No Internal Connection.", 5 CRT (in) "Reset Timeout Capacitor. Attach an external capacitor (CRT) to GND to set a reset timeout of 2ms/nF. A 47nF capacitor generates a 94ms reset delay time. Leaving CRT unconnected generates a minimum timeout period of (See Datasheet)", 6 ~{RST} (out) "Reset Output. Logic output with weak 6uA pull-up to V2. Pulls low when any voltage input is below the reset threshold and held low for the configured reset delay time after all voltage inputs are above threshold. When the (See Datasheet)", 7 ~{WDO} (out) "Watchdog Output. Logic output with weak 6uA pullup to V2. May be pulled greater than V2 using external pull-up. For V2 confi gured to monitor 2.5V or below, connect an external pull-up resistor to the interface logic supply (See Datasheet)", 8 WDI (in) "Watchdog Input: A three-state input that controls the operation of the watchdog timer. Leaving the WDI pin unconnected disables the watchdog timer while tying it low or high enables it. While R\S\T\ is high, a transition (See Datasheet)", 9 CWT (in) "Watchdog Timeout Capacitor. Attach a capacitor (CWT) between CWT and GND to set a watchdog timeout period of 20ms/nF. A 47nF capacitor generates a 940ms watchdog timeout period. Leaving CWT unconnected generates a minimum (See Datasheet)", 10 GND (power) "Device Ground.", 11 VPG (in) "Threshold Select Input. Connect to an external 1% resistive divider between VREF and GND to select one of sixteen combinations of voltage thresholds (see Table 1). Do not add capacitance to the VPG input.", 12 VREF (out) "Buffered Reference Voltage Output. A 1.210V nominal reference used for the mode selection voltage (VPG) and for the offset of negative adjustable applications. The buffered reference can source and sink up to 1mA. The (See Datasheet)", 13 NC "No Internal Connection.", 14 V4 (in) "Voltage Input 4. Select from 1.8V, 1.5V, 1.2V, ADJ or -ADJ. See the Applications Information section for details. Tie to V1 if unused and confi gured for positive voltage.", 15 V2 (in) "Voltage Input 2. Select from 3.3V, 2.5V, 1.8V, 1.5V or 1.2V. See the Applications Information section for details. The greater of V1, V2 is also VCC for the device. Bypass this input to ground with a 0.1uF (or greater) (See Datasheet)", 16 V6 (in) "Adjustable Voltage Input 6 for LTC2939. High impedance comparator input with 0.5V typical threshold. Tie to V1 if unused."